# EAGLE library part MICROBUILDER_PAM8301 (library Adafruit Circuit Playground Bluefruit)
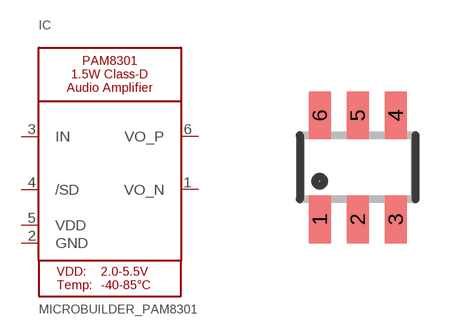
[diagram p3: symbol with the pads of MICROBUILDER_SOT23-6; footprint MICROBUILDER_SOT23-6]

Designator prefix IC

## MICROBUILDER_PAM8301  [MICROBUILDER_SOT23-6]
1  VO_N  out
2  GND  pwr
3  IN  in
4  /SD  in
5  VDD  pwr
6  VO_P  out

## Footprint MICROBUILDER_SOT23-6 (pad centres in mm)
Small Outline Transistor - 6 Pin
smd 0.55 x 1.2: 1 -0.95,-1.3; 2 0,-1.3; 3 0.95,-1.3; 4 0.95,1.3; 5 0,1.3; 6 -0.95,1.3